# Altium footprint library OSSI.PCBLIB: 194 footprints (part 5 of 13)
Each footprint in its own frame and in the unit in brackets; x right, y up, seen from the top. Pads: shape width x height; smd on the part's side, far side on the other; paste and mask are expansions set on the pad; w line width, h text height; cw(c..) or ccw(c..) is an arc to the next point about the centre after c.
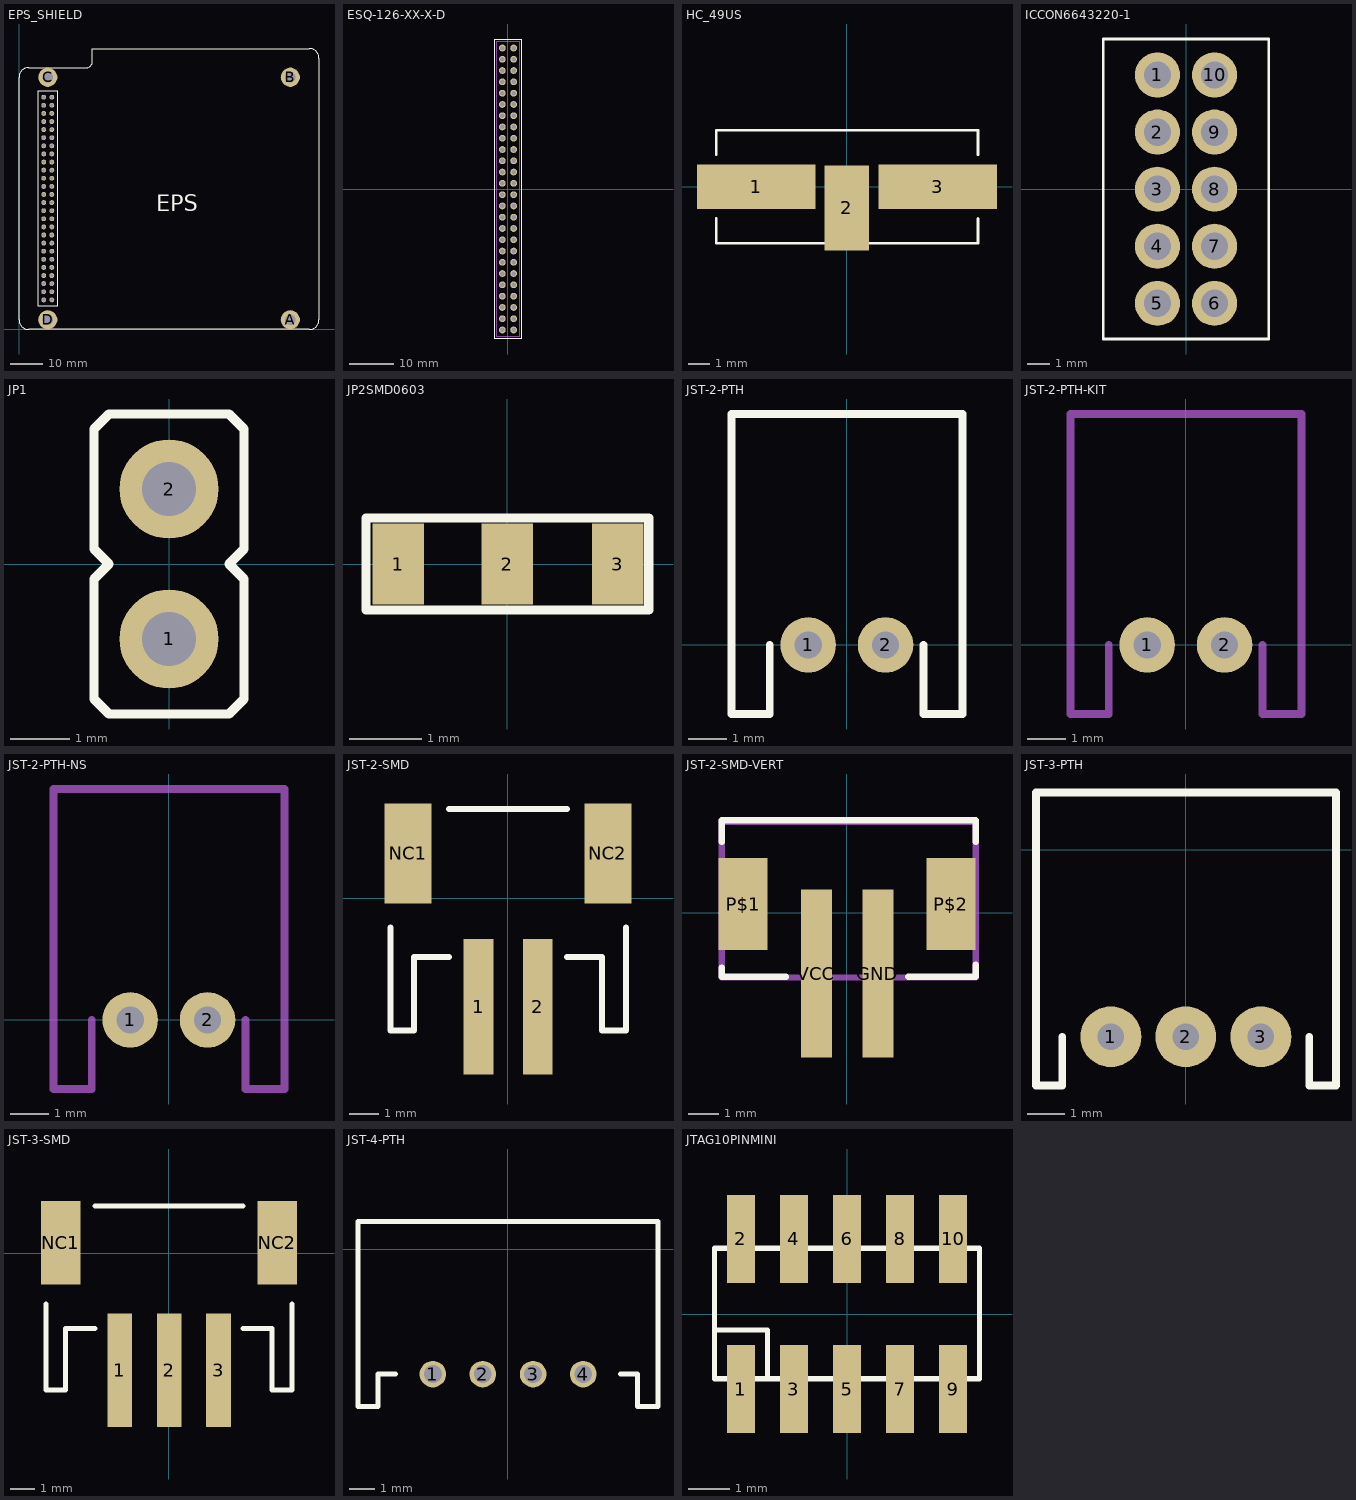
[diagram p4: the footprints below, top view; thin cyan lines are the x and y axes]

## EPS_SHIELD [mil]
pads (56):
  round 60 hole 40: 1(405,365) 2(305,365) 3(405,465) 4(305,465) 5(405,565) 6(305,565) 7(405,665) 8(305,665) 9(405,765) 10(305,765) 11(405,865) 12(305,865) 13(405,965) 14(305,965) 15(405,1065) 16(305,1065) 17(405,1165) 18(305,1165) 19(405,1265) 20(305,1265) 21(405,1365) 22(305,1365) 23(405,1465) 24(305,1465) 25(405,1565) 26(305,1565) 27(405,1665) 28(305,1665) 29(405,1765) 30(305,1765) 31(405,1865) 32(305,1865) 33(405,1965) 34(305,1965) 35(405,2065) 36(305,2065) 37(405,2165) 38(305,2165) 39(405,2265) 40(305,2265) 41(405,2365) 42(305,2365) 43(405,2465) 44(305,2465) 45(405,2565) 46(305,2565) 47(405,2665) 48(305,2665) 49(405,2765) 50(305,2765) 51(405,2865) 52(305,2865)
  round 237 hole 126: A(3347,119) B(3347,3111) C(355,3111) D(355,119)
Top Overlay:
  lines w0: 0,119 ccw(c119,119) 119,0 3583,0 ccw(c3582.5,118.5) 3701,119 3701,3347 ccw(c3583,3347) 3583,3465 906,3465 906,3308 cw(c827,3308) 827,3229 119,3229 ccw(c118.5,3110.5) 0,3111 0,119
  lines w10: 237,285 472,285 472,2945 237,2945 237,285
  text "EPS" at 1693,1457 h201.45

## ESQ [mil]

## ESQ-126-XX-X-D [mil]
pads (52):
  round 60 hole 40: 1(-50,1250) 2(50,1250) 3(-50,1150) 4(50,1150) 5(-50,1050) 6(50,1050) 7(-50,950) 8(50,950) 9(-50,850) 10(50,850) 11(-50,750) 12(50,750) 13(-50,650) 14(50,650) 15(-50,550) 16(50,550) 17(-50,450) 18(50,450) 19(-50,350) 20(50,350) 21(-50,250) 22(50,250) 23(-50,150) 24(50,150) 25(-50,50) 26(50,50) 27(-50,-50) 28(50,-50) 29(-50,-150) 30(50,-150) 31(-50,-250) 32(50,-250) 33(-50,-350) 34(50,-350) 35(-50,-450) 36(50,-450) 37(-50,-550) 38(50,-550) 39(-50,-650) 40(50,-650) 41(-50,-750) 42(50,-750) 43(-50,-850) 44(50,-850) 45(-50,-950) 46(50,-950) 47(-50,-1050) 48(50,-1050) 49(-50,-1150) 50(50,-1150) 51(-50,-1250) 52(50,-1250)
Top Overlay:
  lines w10: -117.48,-1330 118,-1330 118,1330 -117.48,1330 -117.48,-1330
Mechanical 2:
  text ">NAME" at -175,1450 h108.5
Mechanical 4:
  text ">VALUE" at -175,1375 h108.5
Mechanical 16:
  lines w10: -97.48,-1310 98,-1310 98,1310 -97.48,1310 -97.48,-1310

## HC_49US [mil]
pads (3):
  rect 221x83 smd: 1(-169.29,0) 3(170,0)
  rect 83x158 smd: 2(0,-39.37)
Top Overlay:
  lines w5: -244.09,-59.06 -244.09,-105.31 245,-105.31 245,-59.06 ; -244.09,60 -244.09,106 245,106 245,60

## ICCON6643220-1 [mil]
pads (10):
  round 79 hole 48: 1(-50,200) 2(-50,100) 3(-50,0) 4(-50,-100) 5(-50,-200) 6(50,-200) 7(50,-100) 8(50,0) 9(50,100) 10(50,200)
Top Overlay:
  lines w5: -145,-262.5 145,-262.5 145,263 -145,263 -145,-262.5
Mechanical 2:
  text ">NAME" at -200,0 h77.5
Mechanical 4:
  text ">VALUE" at -150,0 h77.5

## JP1 [mil]
pads (2):
  round 66 hole 36: 1(0,-50) 2(0,50)
Top Overlay:
  lines w6: -50,-90 -50,-10 -40,0 -50,10 -50,90 -40,100 40,100 50,90 50,10 40,0 50,-10 50,-90 40,-100 -40,-100 -50,-90
Mechanical 2:
  text ">NAME" at -65,-100 h77.5
Mechanical 4:
  text ">VALUE" at 115,-100 h77.5
Mechanical 16:
  rectangle: -12,38 12,62
  rectangle: -12,-62 12,-38

## JP2SMD0603 [mil]
pads (3):
  rect 28x44 smd: 1(-59.06,0) 2(0,0) 3(60,0)
Top Overlay:
  lines w5: -76.77,-25 77,-25 77,25 -76.77,25 -76.77,-25
Mechanical 2:
  text ">NAME" at 100,-25 h77.5

## JST-2-PTH [mil]
pads (2):
  round 57 hole 28: 1(-39.37,0) 2(40,0)
Top Overlay:
  lines w8: -78.74,0 -78.74,-70.87 -118.11,-70.87 -118.11,237 119,237 119,-70.87 79,-70.87 79,0
Mechanical 2:
  text ">Name" at -50,208 h24.8
Mechanical 4:
  text ">Value" at -50,158 h24.8
Mechanical 16:
  text "+" at 24,28 h77.5
  text "-" at -55.12,28 h77.5

## JST-2-PTH-KIT [mil]
pads (2):
  round 57 hole 28: 1(-39.37,0) 2(40,0)
Top Solder:
  region: 0,0 10,0 10,10 0,10
  region: 0,0 10,0 10,10 0,10
Bottom Solder:
  region: 0,0 10,0 10,10 0,10
  region: 0,0 10,0 10,10 0,10
Mechanical 2:
  text ">Name" at -50,208 h24.8
Mechanical 4:
  text ">Value" at -50,158 h24.8
Mechanical 16:
  lines w8: -78.74,0 -78.74,-70.87 -118.11,-70.87 -118.11,237 119,237 119,-70.87 79,-70.87 79,0
  text "+" at 24,28 h77.5
  text "-" at -55.12,28 h77.5

## JST-2-PTH-NS [mil]
pads (2):
  round 57 hole 28: 1(-39.37,0) 2(40,0)
Mechanical 2:
  text ">Name" at -50,208 h24.8
Mechanical 4:
  text ">Value" at -50,158 h24.8
Mechanical 16:
  lines w8: -78.74,0 -78.74,-70.87 -118.11,-70.87 -118.11,237 119,237 119,-70.87 79,-70.87 79,0
  text "+" at 24,28 h77.5
  text "-" at -55.12,28 h77.5

## JST-2-SMD [mil]
pads (4):
  rect 40x182 smd: 1(-39.37,-145.67) 2(40,-145.67)
  rect 63x134 smd: NC1(-133.86,60) NC2(134,60)
Top Overlay:
  lines w8: -157.48,-39.37 -157.48,-177.17 -125.98,-177.17 -125.98,-78.74 -78.74,-78.74 ; -78.74,119 79,119 ; 79,-78.74 126,-78.74 126,-177.17 158,-177.17 158,-39.37
Mechanical 2:
  text ">Name" at -50,50 h24.8
Mechanical 4:
  text ">Value" at -50,0 h24.8
Mechanical 16:
  text "+" at 85,-175 h77.5
  text "-" at -115,-175 h77.5

## JST-2-SMD-VERT [mil]
pads (4):
  rect 40x217 smd: GND(40,-78.74) VCC(-39.37,-78.74)
  rect 63x119 smd: P$1(-133.86,11) P$2(134,11)
Top Overlay:
  lines w8: -161.42,-70.87 -161.42,-82.68 -78.74,-82.68 ; -161.42,91 -161.42,119 166,119 166,91 ; 79,-82.68 166,-82.68 166,-66.93
Mechanical 2:
  text ">Name" at 100,-200 h77.5
Mechanical 4:
  text ">Value" at 89,138 h77.5
Mechanical 16:
  lines w8: -161.42,-83.86 166,-83.86 166,117 -161.42,117 -161.42,-83.86

## JST-3-PTH [mil]
pads (3):
  round 64 hole 28: 1(-78.74,-196.85) 2(0,-196.85) 3(79,-196.85)
Top Overlay:
  lines w8: -129.92,-196.85 -129.92,-248.03 -157.48,-248.03 -157.48,60 158,60 158,-248.03 130,-248.03 130,-196.85
Mechanical 2:
  text ">Name" at -50,10 h24.8
Mechanical 4:
  text ">Value" at -50,-40.55 h24.8
Mechanical 16:
  text "+" at -94.49,-170.47 h77.5
  text "-" at -15.75,-170.47 h77.5
  text "S" at 67,-162.6 h49.6

## JST-3-SMD [mil]
pads (5):
  rect 40x182 smd: 1(-78.35,-187.8) 2(1,-187.8) 3(80,-187.8)
  rect 63x134 smd: NC1(-172.83,17) NC2(174,17)
Top Overlay:
  lines w8: -196.46,-81.5 -196.46,-219.29 -164.96,-219.29 -164.96,-120.87 -117.72,-120.87 ; -117.72,76 119,76 ; 119,-120.87 166,-120.87 166,-219.29 198,-219.29 198,-81.5
Mechanical 2:
  text ">Name" at -88.98,8 h24.8
Mechanical 4:
  text ">Value" at -88.98,-42.13 h24.8

## JST-4-PTH [mil]
pads (4):
  round 42 hole 28: 1(-118.11,-196.85) 2(-39.37,-196.85) 3(40,-196.85) 4(119,-196.85)
Top Overlay:
  lines w8: -177.17,-196.85 -204.72,-196.85 -204.72,-248.03 -236.22,-248.03 -236.22,44 237,44 237,-248.03 205,-248.03 205,-196.85 178,-196.85
Mechanical 2:
  text ">Name" at -89.37,11 h24.8
Mechanical 4:
  text ">Value" at -89.37,-39.37 h24.8
Mechanical 16:
  text "+" at -133.86,-169.29 h77.5
  text "-" at -55.12,-169.29 h77.5
  text "S" at 28,-161.42 h49.6
  text "S" at 107,-161.42 h49.6

## JTAG10PINMINI [mil]
pads (10):
  rect 26x83 smd: 1(-100,-70.87) 2(-100,71) 3(-50,-70.87) 4(-50,71) 5(0,-70.87) 6(0,71) 7(50,-70.87) 8(50,71) 9(100,-70.87) 10(100,71)
Top Overlay:
  lines w5: -75,-60 -75,-15 -125,-15 ; -125,-15 -125,-61.02 125,-61.02 125,62 -125,62 -125,-15
Mechanical 2:
  text ">NAME" at -150,-125 h77.5
Mechanical 4:
  text ">VALUE" at 200,-150 h77.5